# EAGLE library part TLP5110 (library r1)
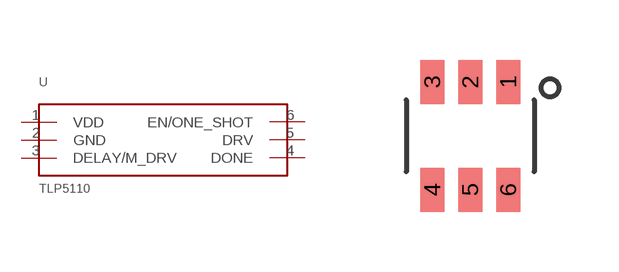
[diagram p2: symbol with the pads of DDC(R-PDSO-G6); footprint DDC(R-PDSO-G6)]

Designator prefix -

## TLP5110  [DDC(R-PDSO-G6)]
1  VDD
2  GND
3  DELAY/M_DRV
4  DONE
5  DRV
6  EN/ONE_SHOT

## Footprint DDC(R-PDSO-G6) (pad centres in mm)
smd 0.6 x 1.1: 1 0.95,1.35; 2 0,1.35; 3 -0.95,1.35; 4 -0.95,-1.35; 5 0,-1.35; 6 0.95,-1.35